# Altium footprint library E2S-E2S-028-V1.PcbLib: 1 footprints
Each footprint in its own frame and in the unit in brackets; x right, y up, seen from the top. Pads: shape width x height; smd on the part's side, far side on the other; paste and mask are expansions set on the pad; w line width, h text height; cw(c..) or ccw(c..) is an arc to the next point about the centre after c.
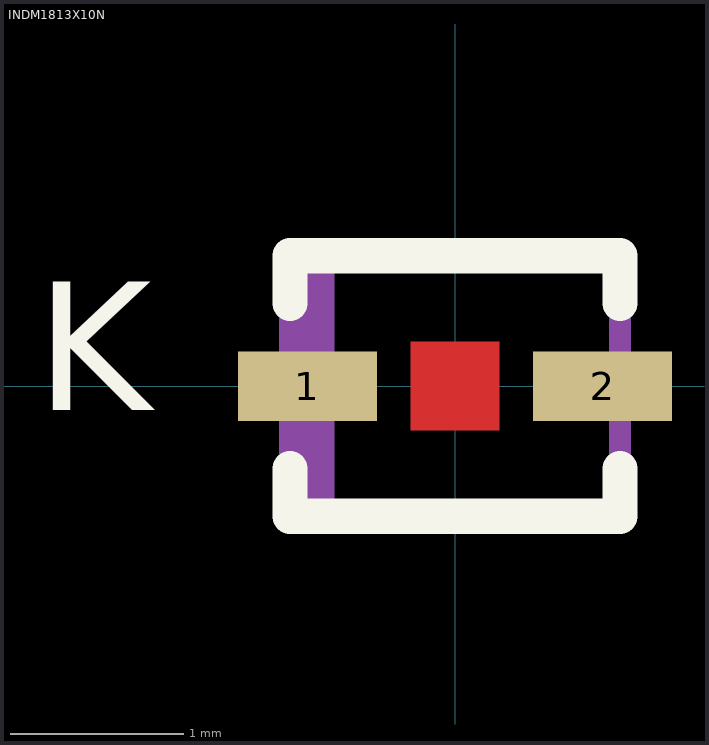
[diagram p0: the footprint, top view; thin cyan lines are the x and y axes]

## INDM1813X10N [mm] "Molded Inductor, 2-Leads, Body 1.75x1.30mm, IPC Medium Density"
height 1
pads (2):
  rect 0.8x0.4 smd: 1(-0.85,0) 2(0.85,0)
Top Layer:
  pour cut-out: -0.254,0.254 -0.254,-0.254 0.254,-0.254 0.254,0.254
Top Overlay:
  lines w0.203: -0.95,-0.477 -0.95,-0.75 0.95,-0.75 0.95,-0.477 ; -0.95,0.477 -0.95,0.75 0.95,0.75 0.95,0.477
  text "K" at -2.413,-0.381 h1.27
Mechanical 1:
  text "'.Designator'" at 0,0 h3.81
Mechanical 15:
  rectangle: -0.95,-0.725 -0.694,0.725
  lines w0.127: -0.95,-0.725 0.95,-0.725 0.95,0.725 -0.95,0.725 -0.95,-0.725
  text "K" at -2.413,-0.381 h1.27
3D body "INDM1813X10N.step": height 1, standoff 0, extent -1.17,-0.725 1.17,0.725